# EAGLE library part IC_CPLD_EPM3064A (library dp_devices)
64 Macrocells 3.3V CPLD
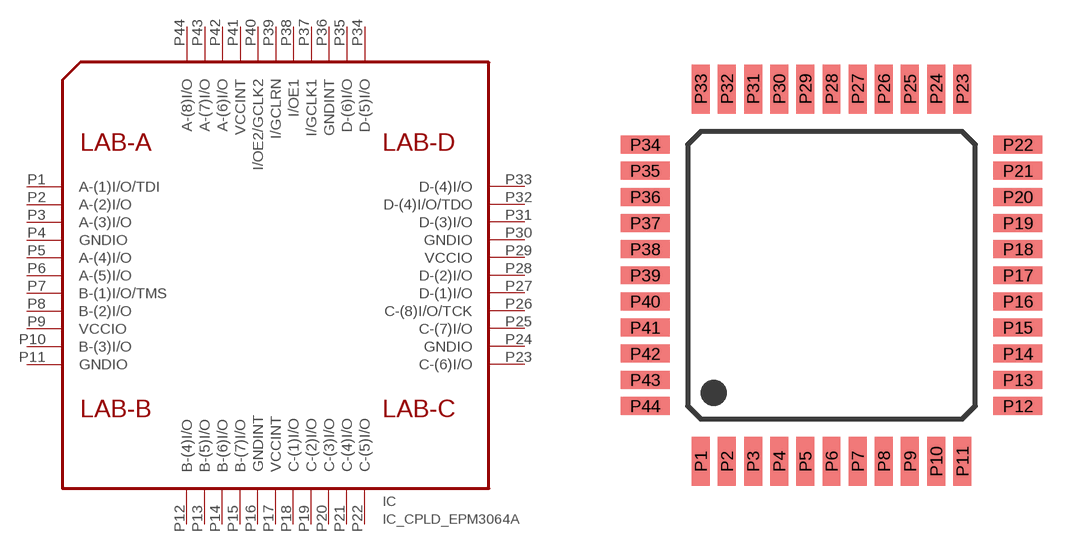
[diagram p29: symbol with the pads of TQFP-44; footprint TQFP-44]

Designator prefix IC

## IC_CPLD_EPM3064A-TQFP44  [TQFP-44]
P1  A-(1)I/O/TDI
P2  A-(2)I/O
P3  A-(3)I/O
P4  GNDIO  sup
P5  A-(4)I/O
P6  A-(5)I/O
P7  B-(1)I/O/TMS
P8  B-(2)I/O
P9  VCCIO  sup
P10  B-(3)I/O
P11  GNDIO  sup
P12  B-(4)I/O
P13  B-(5)I/O
P14  B-(6)I/O
P15  B-(7)I/O
P16  GNDINT  sup
P17  VCCINT  sup
P18  C-(1)I/O
P19  C-(2)I/O
P20  C-(3)I/O
P21  C-(4)I/O
P22  C-(5)I/O
P23  C-(6)I/O
P24  GNDIO  sup
P25  C-(7)I/O
P26  C-(8)I/O/TCK
P27  D-(1)I/O
P28  D-(2)I/O
P29  VCCIO  sup
P30  GNDIO  sup
P31  D-(3)I/O
P32  D-(4)I/O/TDO
P33  D-(4)I/O
P34  D-(5)I/O
P35  D-(6)I/O
P36  GNDINT  sup
P37  I/GCLK1
P38  I/OE1
P39  I/GCLRN
P40  I/OE2/GCLK2
P41  VCCINT  sup
P42  A-(6)I/O
P43  A-(7)I/O
P44  A-(8)I/O

## Footprint TQFP-44 (pad centres in mm)
smd 0.55 x 1.5: P1 -4,-5.7; P2 -3.2,-5.7; P3 -2.4,-5.7; P4 -1.6,-5.7; P5 -0.8,-5.7; P6 0,-5.7; P7 0.8,-5.7; P8 1.6,-5.7; P9 2.4,-5.7; P10 3.2,-5.7; P11 4,-5.7; P23 4,5.7; P24 3.2,5.7; P25 2.4,5.7; P26 1.6,5.7; P27 0.8,5.7; P28 0,5.7; P29 -0.8,5.7; P30 -1.6,5.7; P31 -2.4,5.7; P32 -3.2,5.7; P33 -4,5.7
smd 1.5 x 0.55: P12 5.7,-4; P13 5.7,-3.2; P14 5.7,-2.4; P15 5.7,-1.6; P16 5.7,-0.8; P17 5.7,0; P18 5.7,0.8; P19 5.7,1.6; P20 5.7,2.4; P21 5.7,3.2; P22 5.7,4; P34 -5.7,4; P35 -5.7,3.2; P36 -5.7,2.4; P37 -5.7,1.6; P38 -5.7,0.8; P39 -5.7,0; P40 -5.7,-0.8; P41 -5.7,-1.6; P42 -5.7,-2.4; P43 -5.7,-3.2; P44 -5.7,-4